# EAGLE library part MMDT3906 (library Labor)
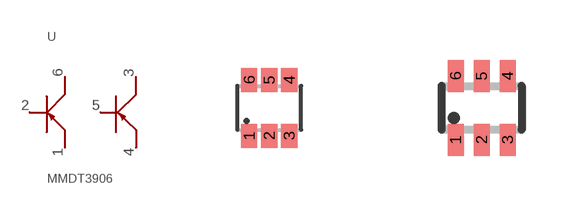
[diagram p14: symbol with the pads of SOT563; footprints SOT563, SOT363_PHILIPS]

Designator prefix -

## MMDT3906SOT563  [SOT563]
1  E1
2  B1
3  C2
4  E2
5  B2
6  C1

## MMDT3906SOT363  [SOT363_PHILIPS]
1  E2
2  B2
3  C1
4  E1
5  B1
6  C2

## Footprint SOT563 (pad centres in mm)
SOT-563 Source: www.centralsemi.com ..SOT-563PD.pdf
smd 0.4 x 0.6: 1 -0.5,-0.7; 2 0,-0.7; 3 0.5,-0.7; 4 0.5,0.7; 5 0,0.7; 6 -0.5,0.7

## Footprint SOT363_PHILIPS (pad centres in mm)
Small Outline Transistor; 6 leads Philips Semiconductors, SOT363.pdf
smd 0.4 x 0.8: 1 -0.65,-0.8; 2 0,-0.8; 3 0.65,-0.8; 4 0.65,0.8; 5 0,0.8; 6 -0.65,0.8